# Altium footprint library 主机控制板.PCBLIB: 37 footprints (part 2 of 3)
Each footprint in its own frame and in the unit in brackets; x right, y up, seen from the top. Pads: shape width x height; smd on the part's side, far side on the other; paste and mask are expansions set on the pad; w line width, h text height; cw(c..) or ccw(c..) is an arc to the next point about the centre after c.
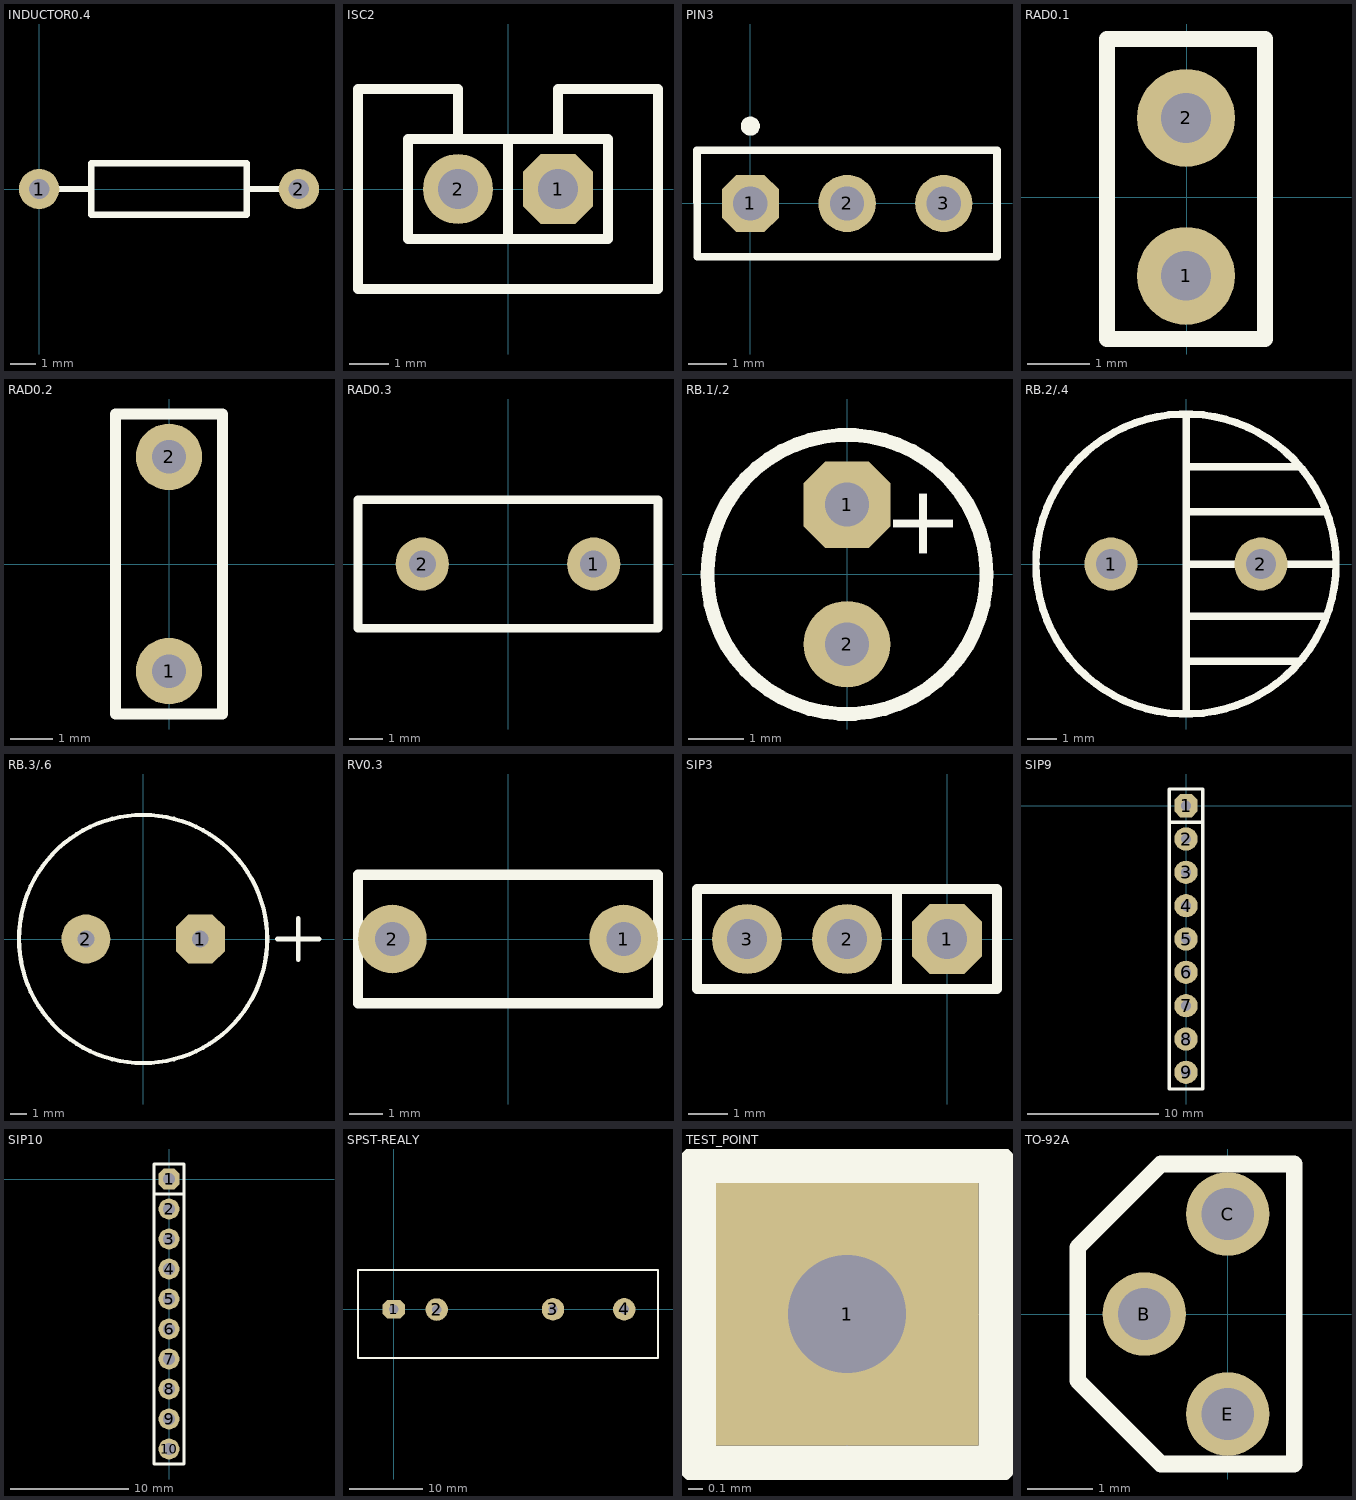
[diagram p1: the footprints below, top view; thin cyan lines are the x and y axes]

## INDUCTOR0.4 [mil]
pads (2):
  round 62 hole 31.5: 1(0,0) 2(400,0)
顶层丝印:
  lines w10: 0,0 80,0 ; 320,0 400,0 ; 80,-40 80,40 320,40 320,-40 80,-40

## ISC2 [mil]
pads (2):
  oct 70x70 hole 40: 1(50,0)
  round 70 hole 40: 2(-50,0)
顶层丝印:
  lines w10: -50,50 -50,100 -150,100 -150,-100 150,-100 150,100 50,100 50,50 ; 0,-50 0,50 ; -100,-50 -100,50 100,50 100,-50 -100,-50

## PIN3 [mm]
pads (3):
  oct 1.5x1.5 hole 0.9: 1(0,0)
  oval 1.51x1.5 hole 0.9: 2(2.54,0)
  round 1.5 hole 0.9: 3(5.08,0)
顶层丝印:
  circle w0.25: c0,2.032 r0.125
  lines w0.2: -1.4,1.4 6.477,1.397 6.477,-1.397 -1.397,-1.397 -1.4,1.4

## RAD0.1 [mil]
pads (2):
  round 62 hole 31.5: 1(-0.41,-49.78) 2(-0.41,50.22)
顶层丝印:
  lines w10: -40.41,-89.78 49.59,-89.78 49.59,100.22 -50.41,100.22 -50.41,-89.78 -30.41,-89.78 ; -40.41,100.22 -0.41,100.22

## RAD0.2 [mil]
pads (2):
  round 62 hole 31.5: 1(0,-100) 2(0,100)
顶层丝印:
  lines w10: -50,-140 50,-140 50,140 -50,140 -50,-140

## RAD0.3 [mil]
pads (2):
  round 62 hole 31.5: 1(100,0) 2(-100,0)
顶层丝印:
  lines w10: -175,-75 175,-75 175,75 -175,75 -175,-75

## RB.1/.2 [mil]
pads (2):
  oct 62x62 hole 31.5: 1(0,50)
  round 62 hole 31.5: 2(0,-50)
顶层丝印:
  circle w10: c0,0 r100
  text "+" at 33,65 h50

## RB.2/.4 [mm]
pads (2):
  round 1.8 hole 1.016: 1(-2.54,0) 2(2.54,0)
顶层丝印:
  circle w0.254: c0,0 r5.08
  lines w0.254: 0,-5.08 0,5.08 ; 0,-3.302 3.81,-3.302 ; 0,-1.778 4.699,-1.778 ; 0,0 5.08,0 ; 0,1.778 4.699,1.778 ; 0,3.302 3.81,3.302

## RB.3/.6 [mm]
pads (2):
  oct 3x3 hole 1.016: 1(3.5,0)
  round 3 hole 1.016: 2(-3.5,0)
顶层丝印:
  circle w0.254: c0,0 r7.6
  lines w0.305: 8.23,0 10.77,0 ; 9.5,-1.27 9.5,1.27

## RV0.3 [mil]
pads (2):
  round 80 hole 40: 1(135,0) 2(-135,0)
顶层丝印:
  lines w12: -175,-75 -175,75 175,75 175,-75 -175,-75

## SIP3 [mil]
pads (3):
  oct 70x70 hole 40: 1(0,0)
  round 70 hole 40: 2(-100,0) 3(-200,0)
顶层丝印:
  lines w10: -50,-50 -50,50 ; -250,-50 -250,50 50,50 50,-50 -250,-50

## SIP9 [mil]
pads (9):
  oct 70x70 hole 31.5: 1(0,0)
  round 70 hole 31.5: 2(0,-100) 3(0,-200) 4(0,-300) 5(0,-400) 6(0,-500) 7(0,-600) 8(0,-700) 9(0,-800)
顶层丝印:
  lines w10: -50,-50 50,-50 ; -50,-850 -50,50 50,50 50,-850 -50,-850

## SIP10 [mil]
pads (10):
  oct 70x70 hole 40: 1(0,0)
  round 70 hole 40: 2(0,-100) 3(0,-200) 4(0,-300) 5(0,-400) 6(0,-500) 7(0,-600) 8(0,-700) 9(0,-800) 10(0,-900)
顶层丝印:
  lines w10: -50,-50 50,-50 ; -50,-950 50,-950 50,50 -50,50 -50,-950

## SPST-REALY [mil]
pads (4):
  oct 120x100 hole 50: 1(0,0)
  round 120 hole 50: 2(230,-1) 3(850,0) 4(1230,0)
顶层丝印:
  lines w10: -190,-260 1410,-260 1410,210 -190,210 -190,-260

## TEST_POINT [mil]
pads (1):
  rect 70x70 hole 31.5: 1(0,0)
顶层丝印:
  lines w10: -40,-40 -40,40 40,40 40,-40 -40,-40

## TO-92A [mm]
pads (3):
  round 1.27 hole 0.8: B(-1.27,0) C(0,1.524) E(0,-1.524)
顶层丝印:
  lines w0.254: -2.286,-1.016 -2.286,1.016 -1.016,2.286 1.016,2.286 1.016,-2.286 -1.016,-2.286 -2.286,-1.016